# EAGLE library part FT232RL (library future-tech-devices)
USB UART
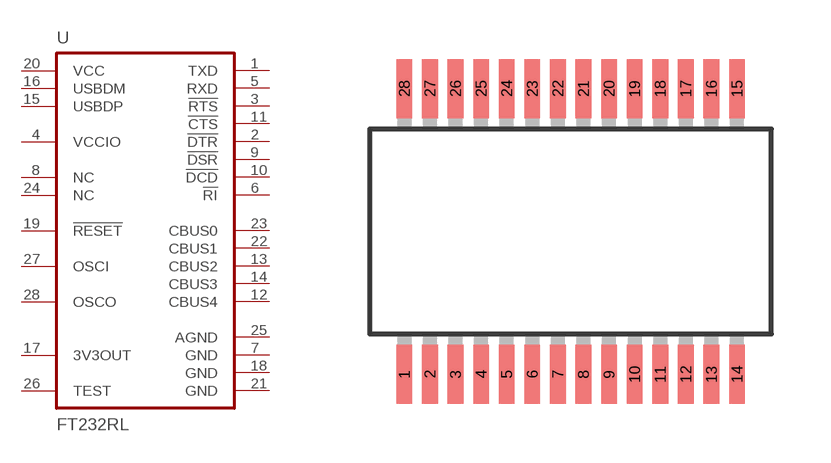
[diagram p4: symbol with the pads of SSOP28; footprint SSOP28]

Designator prefix U

## FT232RL (P1I: o)  [SSOP28]
1  TXD  out
2  !DTR!  out
3  !RTS!  out
4  VCCIO  pwr
5  RXD  in
6  !RI!  in
7  GND  pwr
8  NC  nc
9  !DSR!  in
10  !DCD!  in
11  !CTS!  in
12  CBUS4
13  CBUS2
14  CBUS3
15  USBDP
16  USBDM
17  3V3OUT  out
18  GND  pwr
19  !RESET!  in
20  VCC  pwr
21  GND  pwr
22  CBUS1
23  CBUS0
24  NC  nc
25  AGND  pwr
26  TEST  in
27  OSCI  in
28  OSCO  out

## Footprint SSOP28 (pad centres in mm)
Shrink Small Outline Package 5.2mm body
smd 0.4 x 1.5: 1 -4.225,-3.625; 2 -3.575,-3.625; 3 -2.925,-3.625; 4 -2.275,-3.625; 5 -1.625,-3.625; 6 -0.975,-3.625; 7 -0.325,-3.625; 8 0.325,-3.625; 9 0.975,-3.625; 10 1.625,-3.625; 11 2.275,-3.625; 12 2.925,-3.625; 13 3.575,-3.625; 14 4.225,-3.625; 15 4.225,3.625; 16 3.575,3.625; 17 2.925,3.625; 18 2.275,3.625; 19 1.625,3.625; 20 0.975,3.625; 21 0.325,3.625; 22 -0.325,3.625; 23 -0.975,3.625; 24 -1.625,3.625; 25 -2.275,3.625; 26 -2.925,3.625; 27 -3.575,3.625; 28 -4.225,3.625